# EAGLE library part DS06 (library switch-dil)
DIL/CODE SWITCH
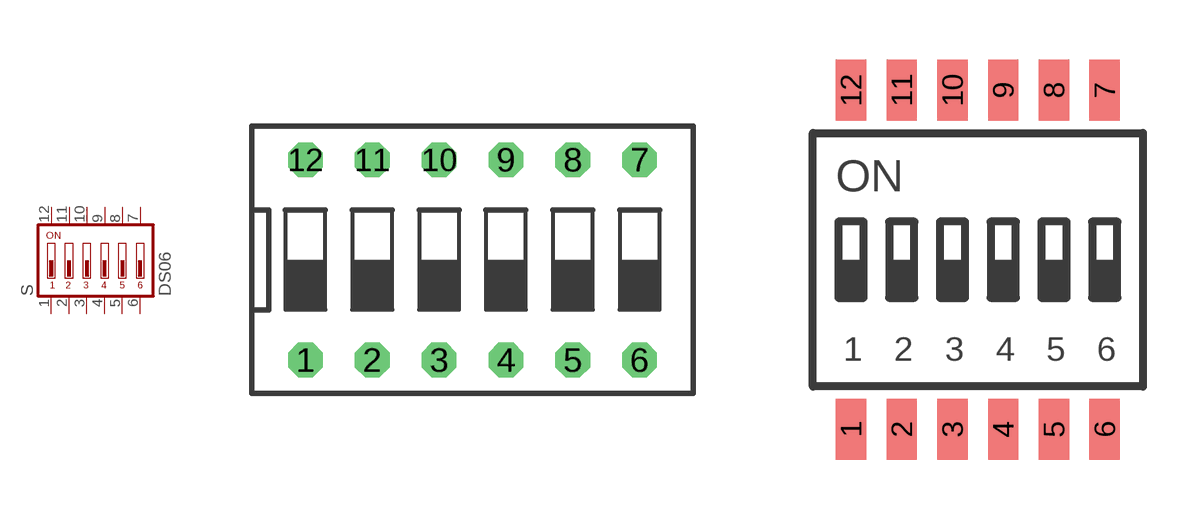
[diagram p3: symbol with the pads of DS-06; footprints DS-06, 218-06]

Designator prefix S

## DS06  [DS-06]
1  1  pas
2  2  pas
3  3  pas
4  4  pas
5  5  pas
6  6  pas
7  7  pas
8  8  pas
9  9  pas
10  10  pas
11  11  pas
12  12  pas

## DS06-CT218-6  [218-06]
Pads as for DS-06

## DS06-SDA06SK  [SDA06SK]
Pads as for DS-06

## DS06-DA-06  [DA-06]
Pads as for DS-06

## Footprint DS-06 (pad centres in mm)
DIL/CODE SWITCH Mors distributor Buerklin, 17G558
drill 0.813 octagon: 1 -6.35,-3.81; 2 -3.81,-3.81; 3 -1.27,-3.81; 4 1.27,-3.81; 5 3.81,-3.81; 6 6.35,-3.81; 7 6.35,3.81; 8 3.81,3.81; 9 1.27,3.81; 10 -1.27,3.81; 11 -3.81,3.81; 12 -6.35,3.81

## Footprint 218-06 (pad centres in mm)
CTS SERIES 218LP - Gull Wing Terminal
smd 0.762 x 1.524: 1 -3.175,-4.245; 2 -1.905,-4.245; 3 -0.635,-4.245; 4 0.635,-4.245; 5 1.905,-4.245; 6 3.175,-4.245; 7 3.175,4.245; 8 1.905,4.245; 9 0.635,4.245; 10 -0.635,4.245; 11 -1.905,4.245; 12 -3.175,4.245

## Footprint SDA06SK (pad centres in mm)
C&K SDA Series
smd 1.397 x 2.032: 1 -6.35,-4.445; 2 -3.81,-4.445; 3 -1.27,-4.445; 4 1.27,-4.445; 5 3.81,-4.445; 6 6.35,-4.445; 7 6.35,4.445; 8 3.81,4.445; 9 1.27,4.445; 10 -1.27,4.445; 11 -3.81,4.445; 12 -6.35,4.445

## Footprint DA-06 (pad centres in mm)
DIL/CODE SWITCH Mors distributor Buerklin, 17G588
drill 0.813 octagon: 1 -6.35,-1.27; 2 -3.81,-1.27; 3 -1.27,-1.27; 4 1.27,-1.27; 5 3.81,-1.27; 6 6.35,-1.27; 7 6.35,1.27; 8 3.81,1.27; 9 1.27,1.27; 10 -1.27,1.27; 11 -3.81,1.27; 12 -6.35,1.27